# Altium integrated library ON Semi Thyristor Surge Protection Devices (TSPDs).IntLib: 2 symbols
Pins are listed as number, name and electrical type; pins without a type are passive.

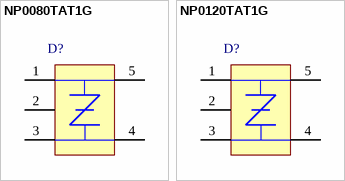
[diagram p0: symbols NP0080TAT1G to NP0120TAT1G]

## NP0080TAT1G
designator D?
Low Capacitance Protector, 5-Pin TSOP, Pb-Free, Tape and Reel; Manufacturer: On Semiconductor; PartNumber: NP0080TAT1G; IH Typ (mA): 50; V(BO) Max (V): 20; DatasheetVersion: Rev. 3; PackageVersion: Rev. K, 04/2013; PackageReference: TSOP-5-483-02; PackageDescription: 5-Pin Small Outline Package, Body 3 x 1.5 mm, Pitch 0.95 mm; Supplier 1: Digi-Key; Supplier Part Number 1: NP0080TAT1GOSTR-ND; Supplier 2: Digi-Key; Supplier Part Number 2: NP0080TAT1GOSCT-ND; Supplier 3: Digi-Key; Supplier Part Number 3: NP0080TAT1GOSDKR-ND; Supplier 4: Farnell; Supplier Part Number 4: 1846424; Supplier 5: Newark; Supplier Part Number 5: 13P5575; Supplier 6: Mouser; Supplier Part Number 6: 863-NP0080TAT1G; IPPS Min (A): 50; Packing: Tape and Reel; RoHS: Pb-Free; Mounting Technology: Surface Mount; ComponentLink1Description: Manufacturer URL; ComponentLink1URL: http://www.onsemi.com/; ComponentLink2Description: Datasheet; ComponentLink2URL: http://www.onsemi.com/pub_link/Collateral/NP0080TA.PDF; ComponentLink3Description: Package Specification; ComponentLink3URL: http://www.onsemi.com/pub_link/Collateral/483.PDF
footprint ONSC-TSOP-5-483-02_V (SOP, 5-Leads, Body 3x1.5mm, Pitch 0.95mm)
pins: 1, 2, 3, 4, 5

## NP0120TAT1G
designator D?
Low Capacitance Protector, 5-Pin TSOP, Pb-Free, Tape and Reel; Manufacturer: On Semiconductor; PartNumber: NP0120TAT1G; IH Typ (mA): 50; V(BO) Max (V): 30; DatasheetVersion: Rev. 3; PackageVersion: Rev. K, 04/2013; PackageReference: TSOP-5-483-02; PackageDescription: 5-Pin Small Outline Package, Body 3 x 1.5 mm, Pitch 0.95 mm; Supplier 1: Digi-Key; Supplier Part Number 1: NP0120TAT1G-ND; Supplier 2: Farnell; Supplier Part Number 2: 1846426; Supplier 3: Newark; Supplier Part Number 3: 13P5576; Supplier 4: Mouser; Supplier Part Number 4: 863-NP0120TAT1G; IPPS Min (A): 50; Packing: Tape and Reel; RoHS: Pb-Free; Mounting Technology: Surface Mount; ComponentLink1Description: Manufacturer URL; ComponentLink1URL: http://www.onsemi.com/; ComponentLink2Description: Datasheet; ComponentLink2URL: http://www.onsemi.com/pub_link/Collateral/NP0080TA.PDF; ComponentLink3Description: Package Specification; ComponentLink3URL: http://www.onsemi.com/pub_link/Collateral/483.PDF
footprint ONSC-TSOP-5-483-02_V (SOP, 5-Leads, Body 3x1.5mm, Pitch 0.95mm)
pins: 1, 2, 3, 4, 5